# EAGLE library part L_SENSOR (library l_sensor)
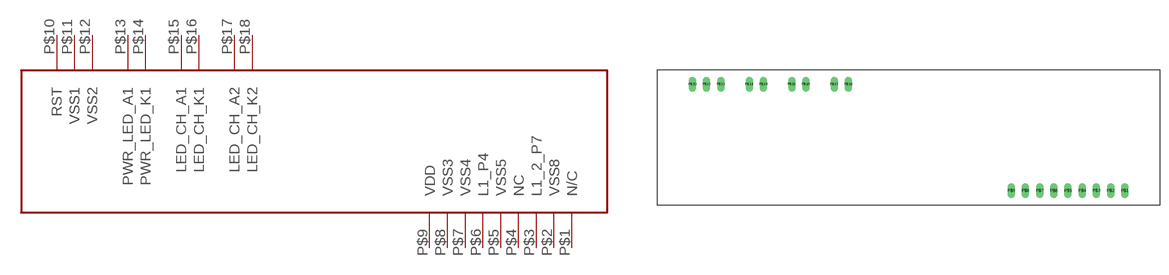
[diagram p0: symbol with the pads of L_SENSOR; footprint L_SENSOR]

Designator prefix IC

## L_SENSOR  [L_SENSOR]
P$1  N/C  nc
P$2  VSS8  pwr
P$3  L1_2_P7
P$4  NC  nc
P$5  VSS5  pwr
P$6  L1_P4
P$7  VSS4  pwr
P$8  VSS3  pwr
P$9  VDD  pwr
P$10  RST
P$11  VSS1  pwr
P$12  VSS2  pwr
P$13  PWR_LED_A1
P$14  PWR_LED_K1
P$15  LED_CH_A1
P$16  LED_CH_K1
P$17  LED_CH_A2
P$18  LED_CH_K2

## Footprint L_SENSOR (pad centres in mm)
drill 0.8 long: P$1 39.37,-10.16; P$2 36.83,-10.16; P$3 34.29,-10.16; P$4 31.75,-10.16; P$5 29.21,-10.16; P$6 26.67,-10.16; P$7 24.13,-10.16; P$8 21.59,-10.16; P$9 19.05,-10.16; P$10 -38.1,8.89; P$11 -35.56,8.89; P$12 -33.02,8.89; P$13 -27.94,8.89; P$14 -25.4,8.89; P$15 -20.32,8.89; P$16 -17.78,8.89; P$17 -12.7,8.89; P$18 -10.16,8.89